# Altium footprint library PCB_Resistors.PcbLib: 4 footprints
Each footprint in its own frame and in the unit in brackets; x right, y up, seen from the top. Pads: shape width x height; smd on the part's side, far side on the other; paste and mask are expansions set on the pad; w line width, h text height; cw(c..) or ccw(c..) is an arc to the next point about the centre after c.
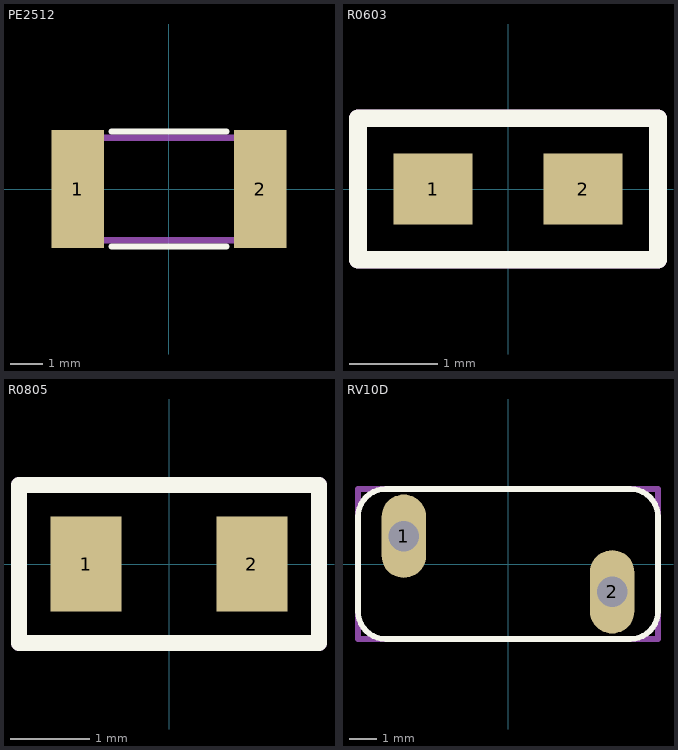
[diagram p0: the footprints below, top view; thin cyan lines are the x and y axes]

## PE2512 [mm]
pads (2):
  rect 1.65x3.68 smd: 1(-2.855,0) 2(2.855,0)
Top Overlay:
  lines w0.2: -1.8,-1.8 1.8,-1.8 ; -1.8,1.8 1.8,1.8
Top Assembly:
  lines w0.2: -3.1,-1.6 3.2,-1.6 3.2,1.6 -3.1,1.6 -3.1,-1.6
  text ".Designator" at -3.499,-0.233 h0.7
3D body "PE2512.STEP": height 0.9, standoff 0.01, extent -3.175,-1.59 3.175,1.59

## R0603 [mm]
pads (2):
  rect 0.9x0.8 smd: 1(-0.85,0) 2(0.85,0)
Top Overlay:
  lines w0.2: -1.7,-0.8 1.7,-0.8 1.7,0.8 -1.7,0.8 -1.7,-0.8
Top Assembly:
  lines w0.2: -1.7,-0.8 1.7,-0.8 1.7,0.8 -1.7,0.8 -1.7,-0.8
  text ".Designator" at -3.499,-0.233 h0.7
3D body "R0603.STEP": height 0.56, standoff 0.01, extent -0.8,-0.4 0.8,0.4

## R0805 [mm]
pads (2):
  rect 0.9x1.2 smd: 1(-1.05,0) 2(1.05,0)
Top Overlay:
  lines w0.2: -1.9,-1 -1.9,1 1.9,1 1.9,-1 -1.9,-1
Top Assembly:
  lines w0.2: -1.9,-1 -1.9,1 1.9,1 1.9,-1 -1.9,-1
  text ".Designator" at -3.499,-0.233 h0.7
3D body "R0805.STEP": height 0.61, standoff 0.01, extent -1,-0.625 1,0.625

## RV10D [mm]
pads (2):
  oval 1.6x3 hole 1.1: 1(-3.75,1) 2(3.75,-1)
Top Overlay:
  lines w0.2: -5.4,-1.7 ccw(c-4.4,-1.7) -4.4,-2.7 4.4,-2.7 ccw(c4.4,-1.7) 5.4,-1.7 5.4,1.7 ccw(c4.4,1.7) 4.4,2.7 -4.4,2.7 ccw(c-4.4,1.7) -5.4,1.7 -5.4,-1.7
Top Assembly:
  lines w0.2: -5.4,-2.7 -5.4,2.7 5.4,2.7 5.4,-2.7 -5.4,-2.7
  text ".Designator" at -3.499,-0.233 h0.7
3D body "RV10D.STEP": height 15.5, standoff -17, extent -6.25,-2 6.25,2